# EAGLE library part WIRES-6 (library harrison)
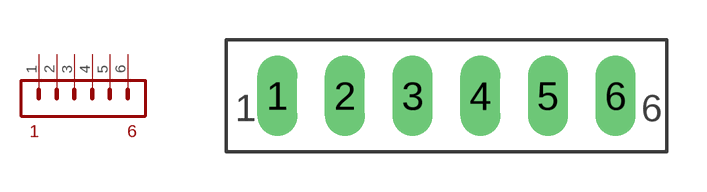
[diagram p94: symbol with the pads of WIRES-6; footprint WIRES-6]

Designator prefix S

## WIRES-6  [WIRES-6]
1  1  pas
2  2  pas
3  3  pas
4  4  pas
5  5  pas
6  6  pas

## Footprint WIRES-6 (pad centres in mm)
drill 1 long: 1 -6.35,0; 2 -3.81,0; 3 -1.27,0; 4 1.27,0; 5 3.81,0; 6 6.35,0